# Altium footprint library Jumpers.PcbLib: 5 footprints
Each footprint in its own frame and in the unit in brackets; x right, y up, seen from the top. Pads: shape width x height; smd on the part's side, far side on the other; paste and mask are expansions set on the pad; w line width, h text height; cw(c..) or ccw(c..) is an arc to the next point about the centre after c.
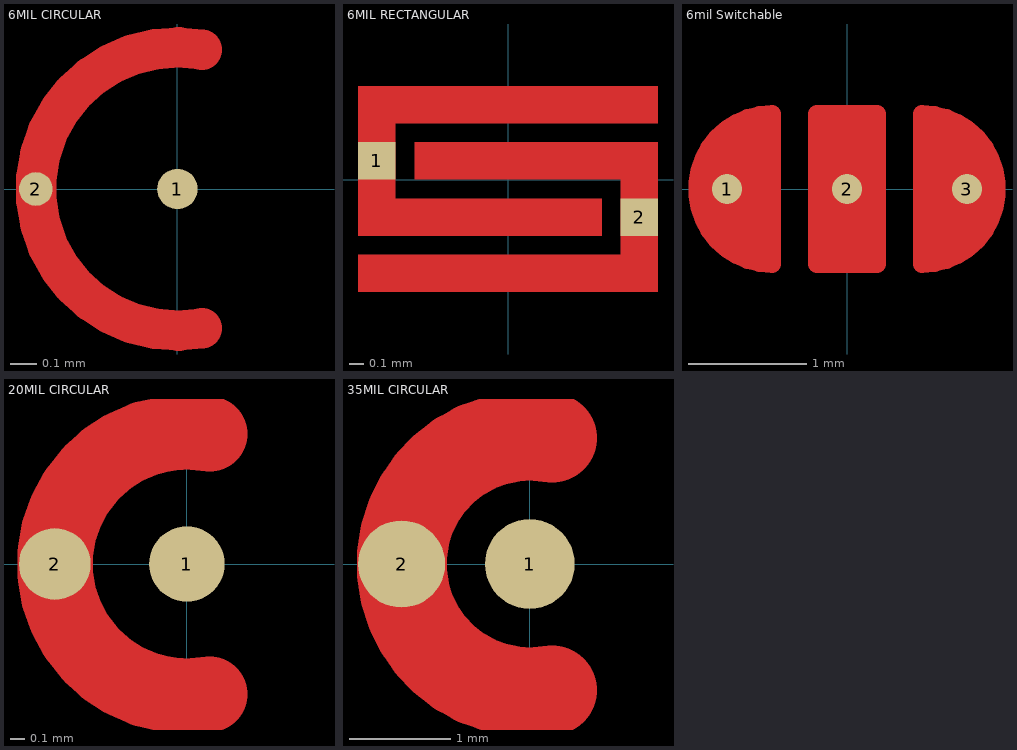
[diagram p0: the footprints below, top view; thin cyan lines are the x and y axes]

## 6MIL CIRCULAR [mil]
pads (2):
  round 6 smd: 1(0,0)
  round 5 smd mask+0: 2(-21,0)
Top Layer:
  lines w6: 3.65,-20.68 cw(c0,0) 3.65,20.68

## 6MIL RECTANGULAR [mil]
pads (2):
  rect 10x10 smd mask+0: 1(-35,5) 2(35,-10)
Top Layer:
  rectangle: -40,-30 40,-20
  rectangle: 30,-30 40,10
  rectangle: -25,0 40,10
  rectangle: -40,-15 25,-5
  rectangle: -40,15 40,25
  rectangle: -40,-15 -30,25

## 6mil Switchable [mil]
pads (3):
  round 10 smd: 1(-40,0) 2(0,0) 3(40,0)
Top Layer:
  region: -10,25 -10,-25 10,-25 10,25
  region: 25,-25 25,25 50,12.5 50,-12.5
  region: -25,25 -25,-25 -50,-12.5 -50,12.5
  lines w6: -25,-25 cw(c-25,0) -25,25 ; -25,-25 -25,25 ; -25,-25 -25,25 ; 25,-25 ccw(c25,0) 25,25 ; 25,-25 25,25 ; 25,-25 25,25 ; -10,-25 10,-25 10,25 -10,25 -10,12.5 -10,-12.5 -10,-25

## 20MIL CIRCULAR [mil]
pads (2):
  round 20 smd mask+4: 1(0,0)
  round 19 smd mask+0: 2(-35,0)
Top Layer:
  lines w20: 6.08,-34.47 cw(c0,0) 6.08,34.47

## 35MIL CIRCULAR [mil]
pads (2):
  round 35 smd: 1(0,0)
  round 34 smd mask+0: 2(-50,0)
Top Layer:
  lines w35: 8.68,-49.24 cw(c0,0) 8.68,49.24